# EAGLE library part SN65HVD72 (library graftel-internal-ic)
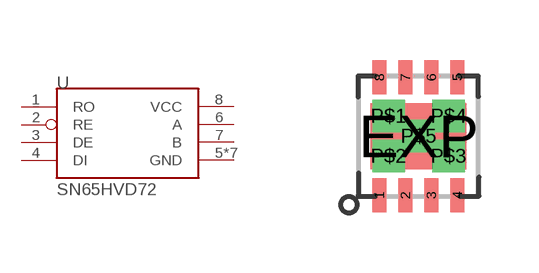
[diagram p28: symbol with the pads of VDFN-8; footprint VDFN-8]

Designator prefix U

## SN65HVD72  [VDFN-8]
1  RO
2  RE
3  DE
4  DI
5  GND
6  A
7  B
8  VCC
EXP  GND
P$1  GND
P$2  GND
P$3  GND
P$4  GND
P$5  GND

## Footprint VDFN-8 (pad centres in mm)
smd 0.35 x 0.85: 1 -0.975,-1.475; 2 -0.325,-1.475; 3 0.325,-1.475; 4 0.975,-1.475; 5 0.975,1.475; 6 0.325,1.475; 7 -0.325,1.475; 8 -0.975,1.475
smd 2.4 x 1.65: EXP 0,0
drill 0.3 pad 0.61 square: P$1 -0.75,0.5; P$2 -0.75,-0.5; P$3 0.75,-0.5; P$4 0.75,0.5; P$5 0,0